# EAGLE library part HMC311LP3E (library HMC311LP3E)
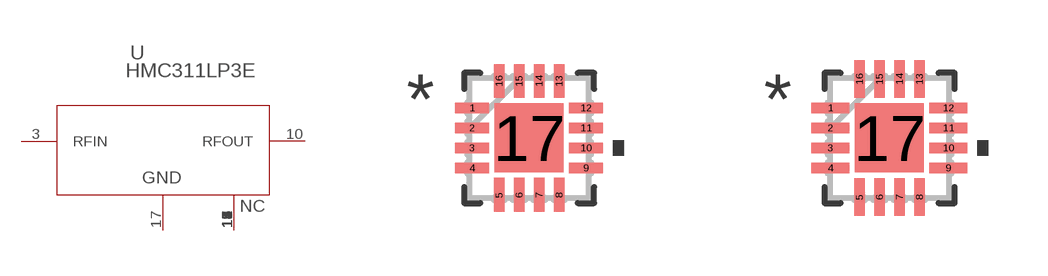
[diagram p0: symbol with the pads of HCP_16_1; footprints HCP_16_1, HCP_16_1-M]

Designator prefix U

## HMC311LP3E (MANUFACTURER_PART_NUMBER: HMC311LP3E; VENDOR: Analog Devices Inc)  [HCP_16_1]
1  N/C  pas
2  N/C_14  pas
3  RFIN  pas
4  N/C_13  pas
5  N/C_12  pas
6  N/C_11  pas
7  N/C_10  pas
8  N/C_9  pas
9  N/C_8  pas
10  RFOUT  pas
11  N/C_7  pas
12  N/C_6  pas
13  N/C_5  pas
14  N/C_4  pas
15  N/C_3  pas
16  N/C_2  pas
17  EP(GND)  pas

## HMC311LP3EHCP_16_1-M (MANUFACTURER_PART_NUMBER: HMC311LP3E; VENDOR: Analog Devices Inc)  [HCP_16_1-M]
Pads as for HCP_16_1

## HMC311LP3EHCP_16_1-L (MANUFACTURER_PART_NUMBER: HMC311LP3E; VENDOR: Analog Devices Inc)  [HCP_16_1-L]
Pads as for HCP_16_1

## Footprint HCP_16_1 (pad centres in mm)
smd 0.85 x 0.26: 1 -1.425,0.75; 2 -1.425,0.25; 3 -1.425,-0.25; 4 -1.425,-0.75; 9 1.425,-0.75; 10 1.425,-0.25; 11 1.425,0.25; 12 1.425,0.75
smd 0.26 x 0.85: 5 -0.75,-1.425; 6 -0.25,-1.425; 7 0.25,-1.425; 8 0.75,-1.425; 13 0.75,1.425; 14 0.25,1.425; 15 -0.25,1.425; 16 -0.75,1.425
smd 1.725 x 1.725: 17 0,0

## Footprint HCP_16_1-M (pad centres in mm)
smd 0.95 x 0.26: 1 -1.475,0.75; 2 -1.475,0.25; 3 -1.475,-0.25; 4 -1.475,-0.75; 9 1.475,-0.75; 10 1.475,-0.25; 11 1.475,0.25; 12 1.475,0.75
smd 0.26 x 0.95: 5 -0.75,-1.475; 6 -0.25,-1.475; 7 0.25,-1.475; 8 0.75,-1.475; 13 0.75,1.475; 14 0.25,1.475; 15 -0.25,1.475; 16 -0.75,1.475
smd 1.725 x 1.725: 17 0,0

## Footprint HCP_16_1-L (pad centres in mm)
smd 0.75 x 0.26: 1 -1.375,0.75; 2 -1.375,0.25; 3 -1.375,-0.25; 4 -1.375,-0.75; 9 1.375,-0.75; 10 1.375,-0.25; 11 1.375,0.25; 12 1.375,0.75
smd 0.26 x 0.75: 5 -0.75,-1.375; 6 -0.25,-1.375; 7 0.25,-1.375; 8 0.75,-1.375; 13 0.75,1.375; 14 0.25,1.375; 15 -0.25,1.375; 16 -0.75,1.375
smd 1.725 x 1.725: 17 0,0